# EAGLE library part 690357101472 (library Wurth_Elektronik2)
WR-MM Male Connector with Polarization,14 Pins=>Code : Con_BTB_MM_Male_THT_690357101472 <http://katalog.we-online.de/media/thumbs2/eican/thb_Con_BTB_MM_Male_THT_69035710xx72_pf2.jpg> Details see: http://katalog.we-online.de/en/em/6903_5710_xx_72 Created 2014-06-04, Karrer Zheng 2014 (C) Würth Elektronik
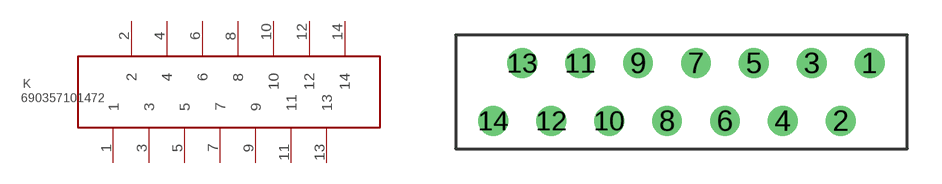
[diagram p325: symbol with the pads of 690357101472; footprint 690357101472]

Designator prefix K

## 690357101472  [690357101472]
1  1  pas
2  2  pas
3  3  pas
4  4  pas
5  5  pas
6  6  pas
7  7  pas
8  8  pas
9  9  pas
10  10  pas
11  11  pas
12  12  pas
13  13  pas
14  14  pas

## Footprint 690357101472 (pad centres in mm)
WR-MM Male Connector with Polarization, 14 Pins
drill 0.8: 1 7.03,1.315; 2 5.76,-1.225; 3 4.49,1.315; 4 3.22,-1.225; 5 1.95,1.315; 6 0.68,-1.225; 7 -0.59,1.315; 8 -1.86,-1.225; 9 -3.13,1.315; 10 -4.4,-1.225; 11 -5.67,1.315; 12 -6.94,-1.225; 13 -8.21,1.315; 14 -9.48,-1.225